# Altium schematic symbol library Schlib_Antenna.SchLib: 4 symbols
Pins are listed as number, name and electrical type; pins without a type are passive.

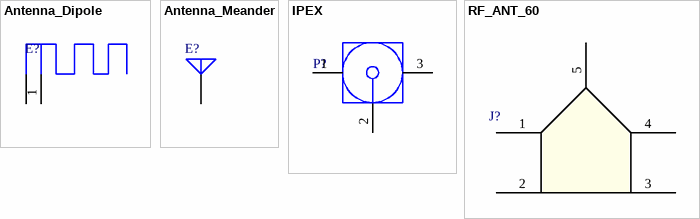
[diagram p0: symbols Antenna_Dipole to RF_ANT_60]

## Antenna_Dipole
designator E?
Dipole Antenna; Published: 24-Mar-1999; LatestRevisionDate: 17-Jul-2002; LatestRevisionNote: Re-released for DXP Platform.; PackageReference: PIN1; Publisher: Altium Limited
footprint ANT-PCB-2.4G-IFA-AN043(Left Feed) (COMPACT 14x5 TI-ORIGIN)
pins: 1 WIFI-ANT, 2 GND

## Antenna_Meander
designator E?
Meander Antenna; Published: 24-Mar-1999; LatestRevisionDate: 17-Jul-2002; LatestRevisionNote: Re-released for DXP Platform.; PackageReference: PIN1; Publisher: Altium Limited
footprint ANT-PCB-2.4G-MLA (Meander Line Antenna)
pins: 1 A

## IPEX
designator P?
RF Coaxial PCB Connector, MCX; Thru-Hole, Right-Angle Mount Socket, Blunt Post Terminal, 50 Ohm Impedance; PCB_Layout: Complies with manufacturer's recommendation.; DrillSize: Corresponds to nominal value.; Published: 15-Jul-2004; LatestRevisionDate: 15-Jul-2004; LatestRevisionNote: Component Replaced.; DatasheetDocument: 30-May-2003; PackageDocument: 04-Jul-1999; PackageReference: 919-119J-51AX; Publisher: Altium Limited; ComponentLink1Description: Manufacturer Link; ComponentLink1URL: http://www.amphenolrf.com/
footprint IPEX
pins: 1 "Signal Pin", 2 "Signal Pin", 3 "Signal Pin"

## RF_ANT_60
designator J?
Antenna Connector
footprint SMA-KWE/90°
pins: 1, 2, 3, 4, 5